# Altium footprint library Power Module.PcbLib: 5 footprints
Each footprint in its own frame and in the unit in brackets; x right, y up, seen from the top. Pads: shape width x height; smd on the part's side, far side on the other; paste and mask are expansions set on the pad; w line width, h text height; cw(c..) or ccw(c..) is an arc to the next point about the centre after c.
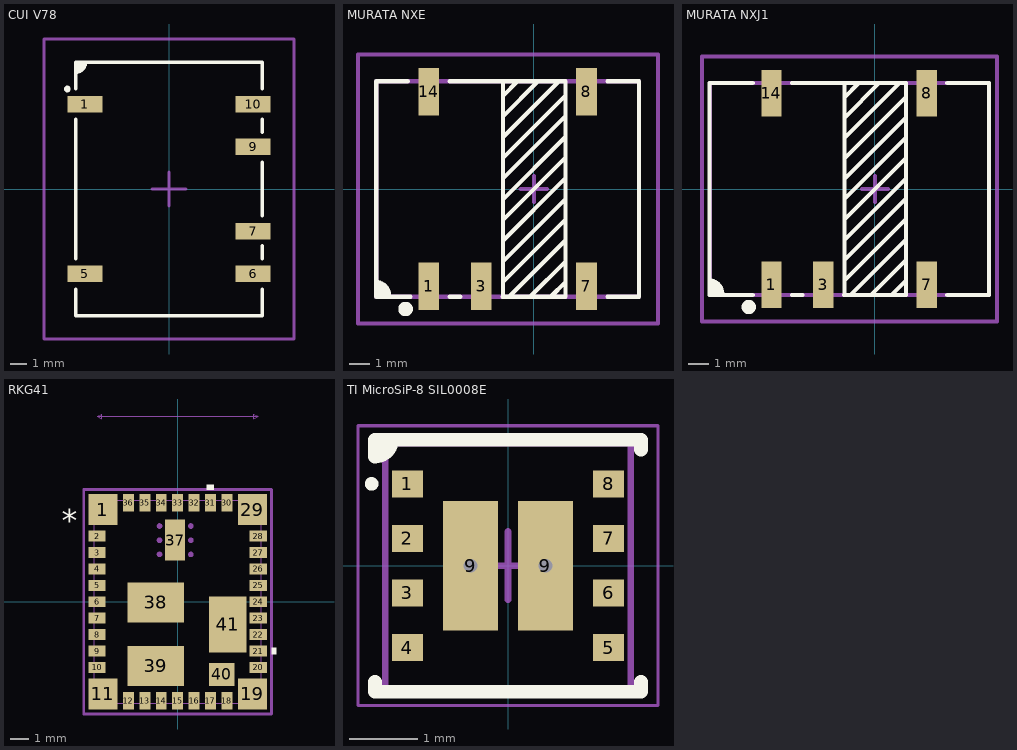
[diagram p0: the footprints below, top view; thin cyan lines are the x and y axes]

## CUI V78 [mm] "Non-isolated switching regulator"
height 7.25
pads (6):
  rect 2.1x1 smd: 1(-5.05,5.08) 5(-5.05,-5.08) 6(5.05,-5.08) 7(5.05,-2.54) 9(5.05,2.54) 10(5.05,5.08)
Top Overlay:
  circle w0.2: c-6.1,6 r0.1
  region: -5,7.6 -5,7.4 -5.4,7 -5.6,7 -5.6,7.6
  lines w0.2: -5.6,-6 -5.6,-7.6 5.6,-7.6 5.6,-6 ; -5.6,-4.2 -5.6,4.2 ; -5.6,6 -5.6,7.6 5.6,7.6 5.6,6 ; -5.6,7 ccw(c-5.6,7.6) -5,7.6 ; 5.6,-4.2 5.6,-3.4 ; 5.6,-1.6 5.6,1.6 ; 5.6,3.4 5.6,4.2
Mechanical 15:
  lines w0.2: -1,0 1,0 ; 0,-1 0,1 ; -7.5,-9 -7.5,9 7.5,9 7.5,-9 -7.5,-9
3D body "CUI V78.STEP": height 7.25, standoff 0, extent -5.622,-7.62 5.622,7.62

## MURATA NXE [mm]
height 4.7
pads (5):
  rect 1x2.3 smd: 1(-5.08,-4.7) 3(-2.54,-4.7) 7(2.54,-4.7) 8(2.54,4.7) 14(-5.08,4.7)
Top Overlay:
  circle w0.5: c-6.2,-5.8 r0.1
  region: -7,-5.207 -7,-4.9 -7.4,-4.5 -7.62,-4.5 -7.62,-5.207
  lines w0.2: -7.62,-4.5 cw(c-7.62,-5.12) -7,-5.12 ; -6.096,5.207 -7.62,5.207 -7.62,-5.207 -5.969,-5.207 ; -4.064,-5.207 -3.556,-5.207 ; -4.064,5.207 1.524,5.207 ; -1.5,-4.5 1.5,-1.5 ; -1.5,-3.5 1.5,-0.5 ; -1.5,-2.5 1.5,0.5 ; -1.5,-1.5 1.5,1.5 ; -1.5,-0.5 1.5,2.5 ; -1.5,0.5 1.5,3.5 ; -1.5,1.5 1.5,4.5 ; -1.5,2.5 1.207,5.207 ; -1.5,3.5 0.207,5.207 ; -1.5,4.5 -0.793,5.207 ; -1.5,5.207 -1.5,-5.207 -1.524,-5.207 1.524,-5.207 1.524,5.207 ; -1.207,-5.207 1.5,-2.5 ; -0.183,-5.207 1.524,-3.5 ; 0.817,-5.207 1.524,-4.5 ; 1.524,5.024 1.524,5.207 ; 3.556,-5.207 5.08,-5.207 5.08,5.207 3.556,5.207
Mechanical 1:
  lines w0.2: -7.62,-5.207 5.08,-5.207 5.08,5.207 -7.62,5.207 -7.62,-5.207
Mechanical 15:
  lines w0.2: -0.635,0 0.635,0 ; 0,-0.635 0,0.635 ; -8.5,-6.5 6,-6.5 6,6.5 -8.5,6.5 -8.5,-6.5
3D body "MURATA NXE.STEP": height 4.48, standoff -0.01, extent -7.62,-5.207 5.08,5.207

## MURATA NXJ1 [mm]
height 4.7
pads (5):
  rect 1x2.3 smd: 1(-5.08,-4.7) 3(-2.54,-4.7) 7(2.54,-4.7) 8(2.54,4.7) 14(-5.08,4.7)
Top Overlay:
  circle w0.5: c-6.2,-5.8 r0.1
  region: -7.5,-5.207 -7.5,-4.9 -7.9,-4.5 -8.12,-4.5 -8.12,-5.207
  lines w0.2: -8.12,-4.5 cw(c-8.12,-5.12) -7.5,-5.12 ; -6,-5.207 -8.12,-5.207 -8.12,5.207 -6,5.207 ; -4.064,-5.207 -3.556,-5.207 ; -4.064,5.207 1.524,5.207 ; -1.5,-4.5 1.5,-1.5 ; -1.5,-3.5 1.5,-0.5 ; -1.5,-2.5 1.5,0.5 ; -1.5,-1.5 1.5,1.5 ; -1.5,-0.5 1.5,2.5 ; -1.5,0.5 1.5,3.5 ; -1.5,1.5 1.5,4.5 ; -1.5,2.5 1.207,5.207 ; -1.5,3.5 0.207,5.207 ; -1.5,4.5 -0.793,5.207 ; -1.5,5.207 -1.5,-5.207 -1.524,-5.207 1.524,-5.207 1.524,5.207 ; -1.207,-5.207 1.5,-2.5 ; -0.183,-5.207 1.524,-3.5 ; 0.817,-5.207 1.524,-4.5 ; 1.524,5.024 1.524,5.207 ; 3.556,-5.207 5.6,-5.207 5.6,5.207 3.556,5.207
Mechanical 1:
  lines w0.2: -8.1,-5.207 -8.1,5.207 5.6,5.207 5.6,-5.207 -8.1,-5.207
Mechanical 15:
  lines w0.2: -0.635,0 0.635,0 ; 0,-0.635 0,0.635 ; -8.5,-6.5 -8.5,6.5 6,6.5 6,-6.5 -8.5,-6.5
3D body "Murata NXJ1.STEP": height 4.22, standoff 0, extent -8.128,-5.232 5.588,5.232

## RKG41 [mm]
pads (41):
  rect 1.6x1.7 smd paste-0.837: 1(-4.1,5.05) 11(-4.1,-5.05) 19(4.1,-5.05) 29(4.1,5.05)
  rect 0.95x0.6 smd paste-0.3: 2(-4.42,3.6) 3(-4.42,2.7) 4(-4.42,1.8) 5(-4.42,0.9) 6(-4.42,0) 7(-4.42,-0.9) 8(-4.42,-1.8) 9(-4.42,-2.7) 10(-4.42,-3.6) 20(4.42,-3.6) 21(4.42,-2.7) 22(4.42,-1.8) 23(4.42,-0.9) 24(4.42,0) 25(4.42,0.9) 26(4.42,1.8) 27(4.42,2.7) 28(4.42,3.6)
  rect 0.6x0.95 smd paste-0.3: 12(-2.7,-5.425) 13(-1.8,-5.425) 14(-0.9,-5.425) 15(0,-5.425) 16(0.9,-5.425) 17(1.8,-5.425) 18(2.7,-5.425) 30(2.7,5.425) 31(1.8,5.425) 32(0.9,5.425) 33(0,5.425) 34(-0.9,5.425) 35(-1.8,5.425) 36(-2.7,5.425)
  rect 1.1x2.25 smd paste-1.112: 37(-0.135,3.375)
  rect 3.1x2.2 smd paste-1.537: 38(-1.195,-0.035) 39(-1.195,-3.515)
  rect 1.4x1.24 smd paste-0.687: 40(2.425,-3.985)
  rect 2.04x3.05 smd paste-1.512: 41(2.745,-1.245)
Top Overlay:
  region: 1.99,6.154 1.609,6.154 1.609,6.408 1.99,6.408
  region: 5.149,-2.509 5.403,-2.509 5.403,-2.89 5.149,-2.89
  text "*" at -6.35,3.81 h1.27
Top Paste:
  drawing of 50 lines, arcs and shapes, not listed
Top Solder:
  region: 4.97,5.97 3.23,5.97 3.23,4.13 4.97,4.13
  region: -3.23,5.97 -4.97,5.97 -4.97,4.13 -3.23,4.13
  region: 4.97,-4.13 3.23,-4.13 3.23,-5.97 4.97,-5.97
  region: -3.23,-4.13 -4.97,-4.13 -4.97,-5.97 -3.23,-5.97
  region: -2.33,5.97 -3.07,5.97 -3.07,4.88 -2.33,4.88
  region: -1.43,5.97 -2.17,5.97 -2.17,4.88 -1.43,4.88
  region: -0.53,5.97 -1.27,5.97 -1.27,4.88 -0.53,4.88
  region: 0.37,5.97 -0.37,5.97 -0.37,4.88 0.37,4.88
  region: 1.27,5.97 0.53,5.97 0.53,4.88 1.27,4.88
  region: 2.17,5.97 1.43,5.97 1.43,4.88 2.17,4.88
  region: 3.07,5.97 2.33,5.97 2.33,4.88 3.07,4.88
  region: 4.965,3.97 3.875,3.97 3.875,3.23 4.965,3.23
  region: 4.965,3.07 3.875,3.07 3.875,2.33 4.965,2.33
  region: 4.965,2.17 3.875,2.17 3.875,1.43 4.965,1.43
  region: 4.965,1.27 3.875,1.27 3.875,0.53 4.965,0.53
  region: 4.965,0.37 3.875,0.37 3.875,-0.37 4.965,-0.37
  region: 4.965,-0.53 3.875,-0.53 3.875,-1.27 4.965,-1.27
  region: 4.965,-1.43 3.875,-1.43 3.875,-2.17 4.965,-2.17
  region: 4.965,-2.33 3.875,-2.33 3.875,-3.07 4.965,-3.07
  region: 4.965,-3.23 3.875,-3.23 3.875,-3.97 4.965,-3.97
  region: 3.07,-4.88 2.33,-4.88 2.33,-5.97 3.07,-5.97
  region: 2.17,-4.88 1.43,-4.88 1.43,-5.97 2.17,-5.97
  region: 1.27,-4.88 0.53,-4.88 0.53,-5.97 1.27,-5.97
  region: 0.37,-4.88 -0.37,-4.88 -0.37,-5.97 0.37,-5.97
  region: -0.53,-4.88 -1.27,-4.88 -1.27,-5.97 -0.53,-5.97
  region: -1.43,-4.88 -2.17,-4.88 -2.17,-5.97 -1.43,-5.97
  region: -2.33,-4.88 -3.07,-4.88 -3.07,-5.97 -2.33,-5.97
  region: -3.875,-3.23 -4.965,-3.23 -4.965,-3.97 -3.875,-3.97
  region: -3.875,-2.33 -4.965,-2.33 -4.965,-3.07 -3.875,-3.07
  region: -3.875,-1.43 -4.965,-1.43 -4.965,-2.17 -3.875,-2.17
  region: -3.875,-0.53 -4.965,-0.53 -4.965,-1.27 -3.875,-1.27
  region: -3.875,0.37 -4.965,0.37 -4.965,-0.37 -3.875,-0.37
  region: -3.875,1.27 -4.965,1.27 -4.965,0.53 -3.875,0.53
  region: -3.875,2.17 -4.965,2.17 -4.965,1.43 -3.875,1.43
  region: -3.875,3.07 -4.965,3.07 -4.965,2.33 -3.875,2.33
  region: -3.875,3.97 -4.965,3.97 -4.965,3.23 -3.875,3.23
Mechanical 7:
  lines w0.025: -4.42,10.17 -4.166,10.043 -4.166,10.297 -4.42,10.17 ; -4.42,10.17 4.42,10.17 ; 4.42,10.17 4.166,10.043 4.166,10.297 4.42,10.17
Mechanical 13:
  lines w0.025: -4.575,4.305 -3.305,5.575 ; -4.575,-5.575 -4.575,5.575 4.575,5.575 4.575,-5.575 -4.575,-5.575 ; -4.575,-3.88 -4.575,-3.32 -4.575,-3.88 ; -4.575,-2.98 -4.575,-2.42 -4.575,-2.98 ; -4.575,-2.08 -4.575,-1.52 -4.575,-2.08 ; -4.575,-1.18 -4.575,-0.62 -4.575,-1.18 ; -4.575,-0.28 -4.575,0.28 -4.575,-0.28 ; -4.575,0.62 -4.575,1.18 -4.575,0.62 ; -4.575,1.52 -4.575,2.08 -4.575,1.52 ; -4.575,2.42 -4.575,2.98 -4.575,2.42 ; -4.575,3.32 -4.575,3.88 -4.575,3.32 ; -2.98,-5.575 -2.42,-5.575 -2.98,-5.575 ; -2.98,5.575 -2.42,5.575 -2.98,5.575 ; -2.08,-5.575 -1.52,-5.575 -2.08,-5.575 ; -2.08,5.575 -1.52,5.575 -2.08,5.575 ; -1.18,-5.575 -0.62,-5.575 -1.18,-5.575 ; -1.18,5.575 -0.62,5.575 -1.18,5.575 ; -0.28,-5.575 0.28,-5.575 -0.28,-5.575 ; -0.28,5.575 0.28,5.575 -0.28,5.575 ; 0.62,-5.575 1.18,-5.575 0.62,-5.575 ; 0.62,5.575 1.18,5.575 0.62,5.575 ; 1.52,-5.575 2.08,-5.575 1.52,-5.575 ; 1.52,5.575 2.08,5.575 1.52,5.575 ; 2.42,-5.575 2.98,-5.575 2.42,-5.575 ; 2.42,5.575 2.98,5.575 2.42,5.575 ; 4.575,-3.88 4.575,-3.32 4.575,-3.88 ; 4.575,-2.98 4.575,-2.42 4.575,-2.98 ; 4.575,-2.08 4.575,-1.52 4.575,-2.08 ; 4.575,-1.18 4.575,-0.62 4.575,-1.18 ; 4.575,-0.28 4.575,0.28 4.575,-0.28 ; 4.575,0.62 4.575,1.18 4.575,0.62 ; 4.575,1.52 4.575,2.08 4.575,1.52 ; 4.575,2.42 4.575,2.98 4.575,2.42 ; 4.575,3.32 4.575,3.88 4.575,3.32
Mechanical 15:
  lines w0.152: -5.149,-6.154 5.149,-6.154 5.149,6.154 -5.149,6.154 -5.149,-6.154
Mechanical 16:
  circle w0.152: c-0.995,2.595 r0.076
  circle w0.152: c0.725,4.155 r0.076
  circle w0.152: c-0.995,4.155 r0.076
  circle w0.152: c-0.995,3.375 r0.076
  circle w0.152: c0.725,2.595 r0.076
  circle w0.152: c0.725,3.375 r0.076
3D body: height 0.25, standoff 0, extent 0,0 0.254,0.254

## TI MicroSiP-8 SIL0008E [mm] "MicroSIP, 8-Leads, Body 3.50x3.50mm, Pitch 0.80mm, Thermal Pad 0.00x0.00mm, IPC Medium Density"
height 1.75
pads (10):
  rect 0.45x0.4 smd: 1(-1.475,1.2) 2(-1.475,0.4) 3(-1.475,-0.4) 4(-1.475,-1.2) 5(1.475,-1.2) 6(1.475,-0.4) 7(1.475,0.4) 8(1.475,1.2)
  rect 0.8x1.9 smd paste-2: 9(-0.55,0) 9(0.55,0)
via 0.55,0 diameter 0.6 hole 0.2
via -0.55,0 diameter 0.6 hole 0.2
Top Overlay:
  circle w0.1: c-2,1.2 r0.05
  region: -1.95,1.85 -1.7,1.85 -1.95,1.6
  lines w0.2: -1.95,-1.7 -1.95,-1.85 1.95,-1.85 1.95,-1.7 ; -1.7,1.85 cw(c-1.95,1.85) -1.95,1.6 -1.95,1.85 1.95,1.85 1.95,1.7
Top Paste:
  rectangle: 0.17,-0.905 0.93,-0.145
  region: -0.17,-0.145 -0.93,-0.145 -0.93,-0.905 -0.17,-0.905
  region: -0.17,0.905 -0.93,0.905 -0.93,0.145 -0.17,0.145
  rectangle: 0.17,0.145 0.93,0.905
Mechanical 13:
  lines w0.1: -1.8,-1.8 1.8,-1.8 1.8,1.8 -1.8,1.8 -1.8,-1.8
Mechanical 15:
  lines w0.05: -2.2,-2.05 2.2,-2.05 2.2,2.05 -2.2,2.05 -2.2,-2.05
  lines w0.1: -0.5,0 0.5,0 ; 0,-0.5 0,0.5
3D body "TI LMZ21701.STEP": height 1.75, standoff 0, extent -1.75,-1.75 1.75,1.75